# Altium schematic symbol library BQ24080.Schlib: 1 symbol
Pins are listed as number, name and electrical type; pins without a type are passive.

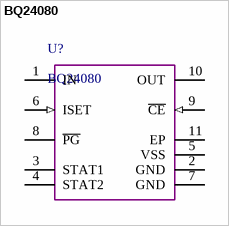
[diagram p0: symbol BQ24080]

## BQ24080
designator U?
pins: 1 IN (power) "Adapter dc voltage. Connect minimum 0.1-uF capacitor to VSS.", 2 GND (power) "Ground", 3 STAT1 (oc) "Charge status outputs (open-drain)", 4 STAT2 (oc) "Charge status outputs (open-drain)", 5 VSS (power) "Ground", 6 ISET (in) "Charge current. External resistor to VSS sets precharge and fast-charge current, and also the termination current value. Can be used to monitor the charge current.", 7 GND (power) "Ground", 8 ~{PG} (hiz) "Power-good status output (open-drain)", 9 ~{CE} (in) "Charge enable input (active-low)", 10 OUT (power) "Charge current output. Connect minimum 0.1-uF capacitor to VSS.", 11 EP (power) "There is an internal electrical connection between the exposed thermal pad and the VSS pin of the device. The exposed thermal pad must be connected to the same potential as the VSS pin on the printed-circuit board. Do not (See Datasheet)"